# EAGLE library part SN74HC240N (library SN74HC240N)
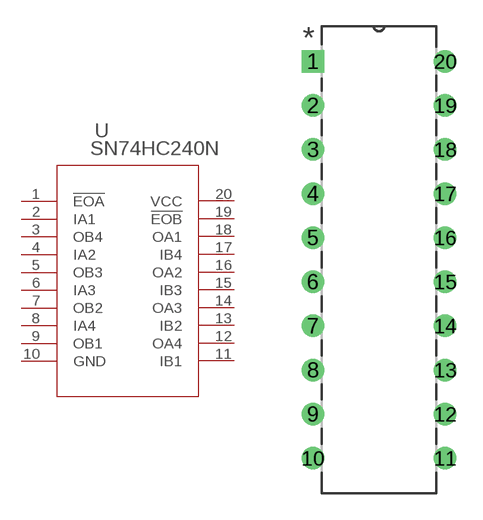
[diagram p0: symbol with the pads of N20; footprint N20]

Designator prefix U

## SN74HC240N (COPYRIGHT: Copyright (C) 2022 Ultra Librarian. All rights reserved.; MANUFACTURER_PART_NUMBER: SN74HC240N; MFR_NAME: Texas Instruments)  [N20]
1  !EOA  in
2  IA1  in
3  OB4  out
4  IA2  in
5  OB3  out
6  IA3  in
7  OB2  out
8  IA4  in
9  OB1  out
10  GND  pwr
11  IB1  in
12  OA4  out
13  IB2  in
14  OA3  out
15  IB3  in
16  OA2  out
17  IB4  in
18  OA1  out
19  !EOB  in
20  VCC  pwr

## Footprint N20 (pad centres in mm)
drill 0.787 pad 1.295 square: 1 -7.62,22.86
drill 0.787 pad 1.295: 2 -7.62,20.32; 3 -7.62,17.78; 4 -7.62,15.24; 5 -7.62,12.7; 6 -7.62,10.16; 7 -7.62,7.62; 8 -7.62,5.08; 9 -7.62,2.54; 10 -7.62,0; 11 0,0; 12 0,2.54; 13 0,5.08; 14 0,7.62; 15 0,10.16; 16 0,12.7; 17 0,15.24; 18 0,17.78; 19 0,20.32; 20 0,22.86